# EAGLE library part ADT1-1+ (library My_Library)
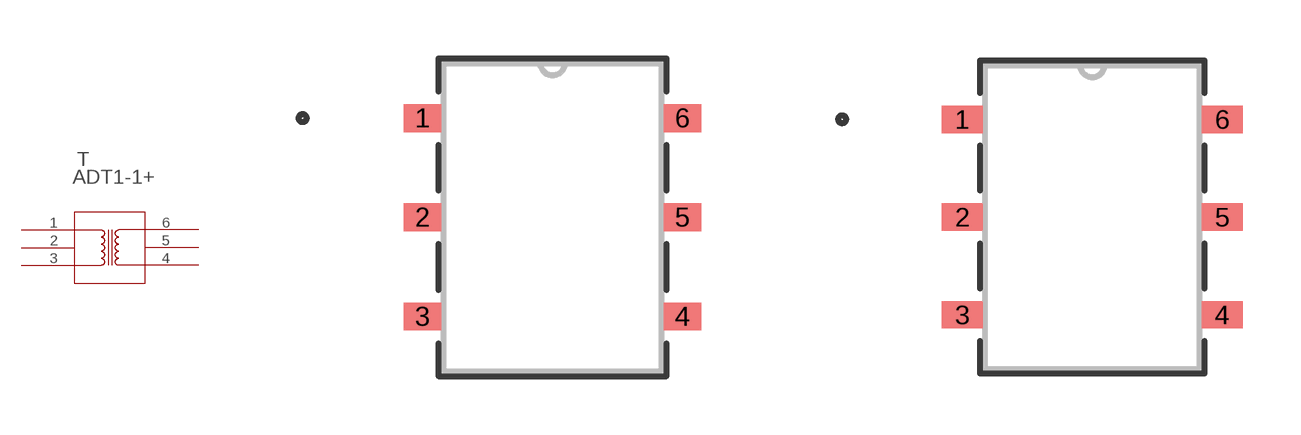
[diagram p27: symbol with the pads of ADT1-1+_MNC; footprints ADT1-1+_MNC, ADT1-1+_MNC-M]

Designator prefix T

## ADT1-1+ (COPYRIGHT: Copyright (C) 2025 Ultra Librarian. All rights reserved.; MANUFACTURER_PART_NUMBER: ADT1-1+; MFR_NAME: Mini Circuits)  [ADT1-1+_MNC]
1  1  pas
2  2  pas
3  3  pas
4  4  pas
5  5  pas
6  6  pas

## ADT1-1+ADT1-1+_MNC-M (COPYRIGHT: Copyright (C) 2025 Ultra Librarian. All rights reserved.; MANUFACTURER_PART_NUMBER: ADT1-1+; MFR_NAME: Mini Circuits)  [ADT1-1+_MNC-M]
Pads as for ADT1-1+_MNC

## ADT1-1+ADT1-1+_MNC-L (COPYRIGHT: Copyright (C) 2025 Ultra Librarian. All rights reserved.; MANUFACTURER_PART_NUMBER: ADT1-1+; MFR_NAME: Mini Circuits)  [ADT1-1+_MNC-L]
Pads as for ADT1-1+_MNC

## Footprint ADT1-1+_MNC (pad centres in mm)
smd 0.965 x 0.711: 1 -3.327,2.54; 2 -3.327,0; 3 -3.327,-2.54; 4 3.327,-2.54; 5 3.327,0; 6 3.327,2.54

## Footprint ADT1-1+_MNC-M (pad centres in mm)
smd 1.067 x 0.711: 1 -3.378,2.54; 2 -3.378,0; 3 -3.378,-2.54; 4 3.378,-2.54; 5 3.378,0; 6 3.378,2.54

## Footprint ADT1-1+_MNC-L (pad centres in mm)
smd 0.864 x 0.711: 1 -3.277,2.54; 2 -3.277,0; 3 -3.277,-2.54; 4 3.277,-2.54; 5 3.277,0; 6 3.277,2.54